# EAGLE library part LM393 (library _mtvl_ic)
Dual Comparators
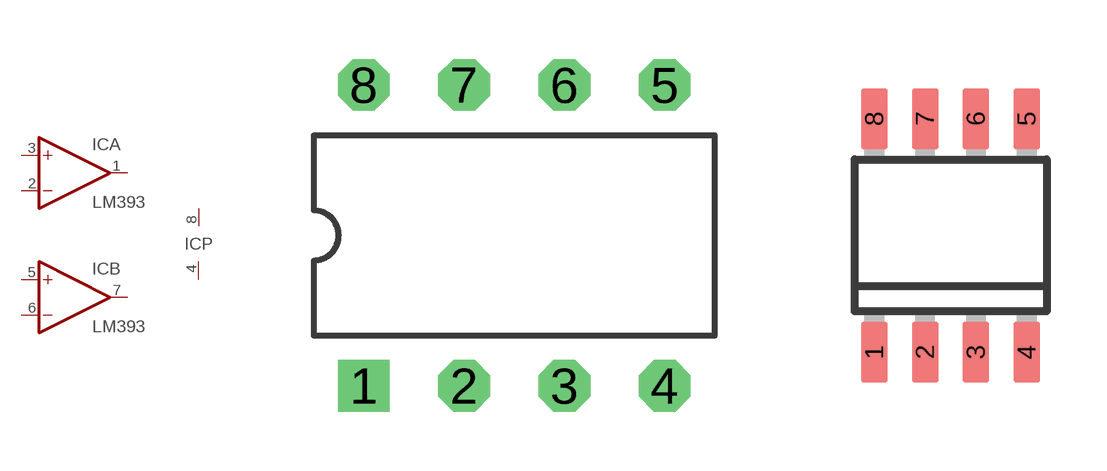
[diagram p58: symbol with the pads of DIL08_; footprints DIL08_, SO8]

Designator prefix IC; gates A=COMPARATOR-OC B=COMPARATOR-OC P=PWR+-

## LM393N  [DIL08_]
1  A:OUT  oc
2  A:-IN  in
3  A:+IN  in
4  P:V-  pwr
5  B:+IN  in
6  B:-IN  in
7  B:OUT  oc
8  P:V+  pwr

## LM393D  [SO8]
Pads as for DIL08_

## Footprint DIL08_ (pad centres in mm)
Dual In Line package type P
drill 0.8 square: 1 -3.81,-3.81
drill 0.8 octagon: 2 -1.27,-3.81; 3 1.27,-3.81; 4 3.81,-3.81; 5 3.81,3.81; 6 1.27,3.81; 7 -1.27,3.81; 8 -3.81,3.81

## Footprint SO8 (pad centres in mm)
SMALL OUTLINE INTEGRATED CIRCUIT
smd 0.66 x 1.524: 1 -1.905,-2.921; 2 -0.635,-2.921; 3 0.635,-2.921; 4 1.905,-2.921; 5 1.905,2.921; 6 0.635,2.921; 7 -0.635,2.921; 8 -1.905,2.921